# Altium schematic symbol library RC0805FR-0730KL.SchLib: 1 symbol
Pins are listed as number, name and electrical type; pins without a type are passive.

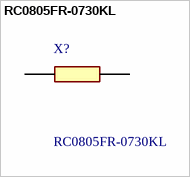
[diagram p0: symbol RC0805FR-0730KL]

## RC0805FR-0730KL
designator X?
YAGEO - RC0805FR-0730KL - SMD Chip Resistor, 30 kohm, +/- 1%, 125 mW, 0805 [2012 Metric], Thick Film, General Purpose; Geometry.Height: 0.6mm; Mouser Part Number: 603-RC0805FR-0730KL; Mouser Price/Stock: https://www.mouser.co.uk/ProductDetail/YAGEO/RC0805FR-0730KL?qs=QrWOOBGzeCbwE5CbPpR7Pw%3D%3D; Manufacturer_Name: YAGEO; Manufacturer_Part_Number: RC0805FR-0730KL; Datasheet Link: https://www.yageo.com/upload/media/product/productsearch/datasheet/rchip/PYu-RC_Group_51_RoHS_L_12.pdf
footprint RESC2012X60N
pins: 1, 2